# Altium footprint library [SEN0515][M027.00702]Fermion ENS160 Sensor(V1.0.0).PcbLib: 1 footprints
Each footprint in its own frame and in the unit in brackets; x right, y up, seen from the top. Pads: shape width x height; smd on the part's side, far side on the other; paste and mask are expansions set on the pad; w line width, h text height; cw(c..) or ccw(c..) is an arc to the next point about the centre after c.
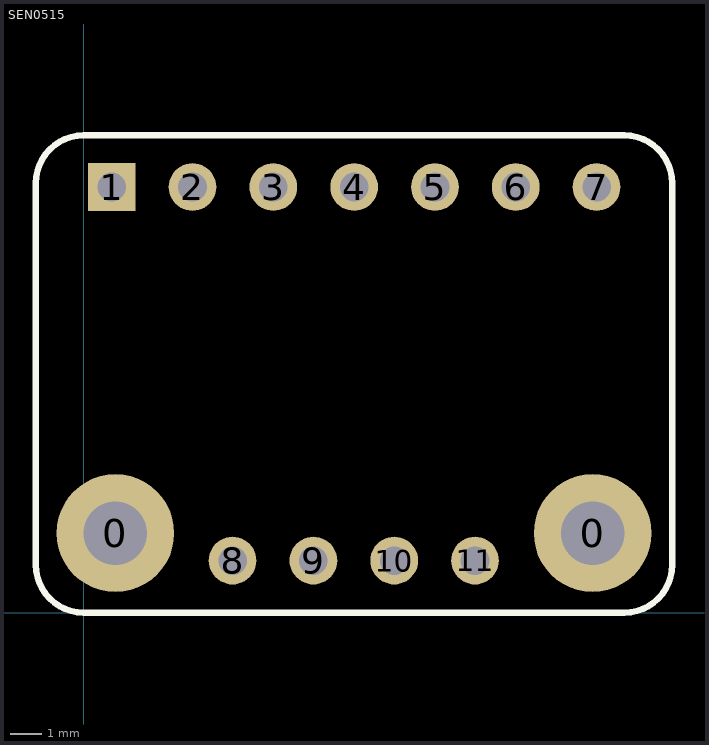
[diagram p0: the footprint, top view; thin cyan lines are the x and y axes]

## SEN0515 [mm]
pads (13):
  round 3.7 hole 2 unplated: 0(1,2.5) 0(16,2.5)
  rect 1.5x1.5 hole 0.9 unplated: 1(0.884,13.375)
  round 1.5 hole 0.9 unplated: 2(3.424,13.375) 3(5.964,13.375) 4(8.504,13.375) 5(11.044,13.375) 6(13.584,13.375) 7(16.124,13.375) 8(4.684,1.635) 9(7.224,1.635) 10(9.764,1.635) 11(12.304,1.635)
Top Overlay:
  lines w0.2: -1.5,1.5 ccw(c0,1.5) 0,0 17,0 ccw(c17,1.5) 18.5,1.5 18.5,13.5 ccw(c17,13.5) 17,15 0,15 ccw(c0,13.5) -1.5,13.5 -1.5,1.5